# EAGLE library part DIP-SWITCH06 (library Programmer)
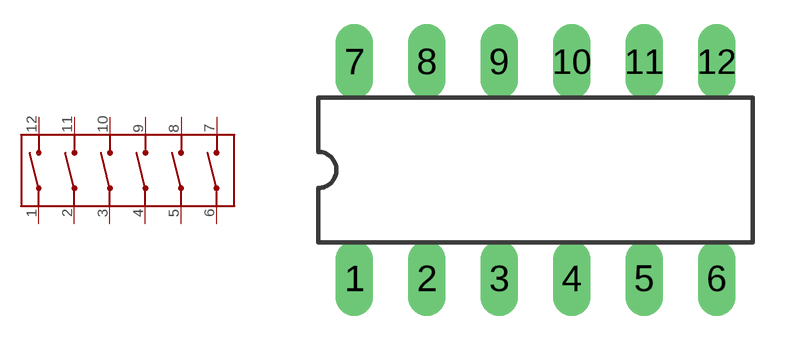
[diagram p3: symbol with the pads of DIP12; footprint DIP12]

Designator prefix S

## DIP-SWITCH06  [DIP12]
1  1_1
2  2_1
3  3_1
4  4_1
5  5_1
6  6_1
7  6_2
8  5_2
9  4_2
10  3_2
11  2_2
12  1_2

## Footprint DIP12 (pad centres in mm)
Dual In Line
drill 0.813 long: 1 -3.81,-3.81; 2 -1.27,-3.81; 3 1.27,-3.81; 4 3.81,-3.81; 5 6.35,-3.81; 6 8.89,-3.81; 7 -3.81,3.81; 8 -1.27,3.81; 9 1.27,3.81; 10 3.81,3.81; 11 6.35,3.81; 12 8.89,3.81